# Altium footprint library SamacSys.PcbLib: 19 footprints (part 1 of 2)
Each footprint in its own frame and in the unit in brackets; x right, y up, seen from the top. Pads: shape width x height; smd on the part's side, far side on the other; paste and mask are expansions set on the pad; w line width, h text height; cw(c..) or ccw(c..) is an arc to the next point about the centre after c.
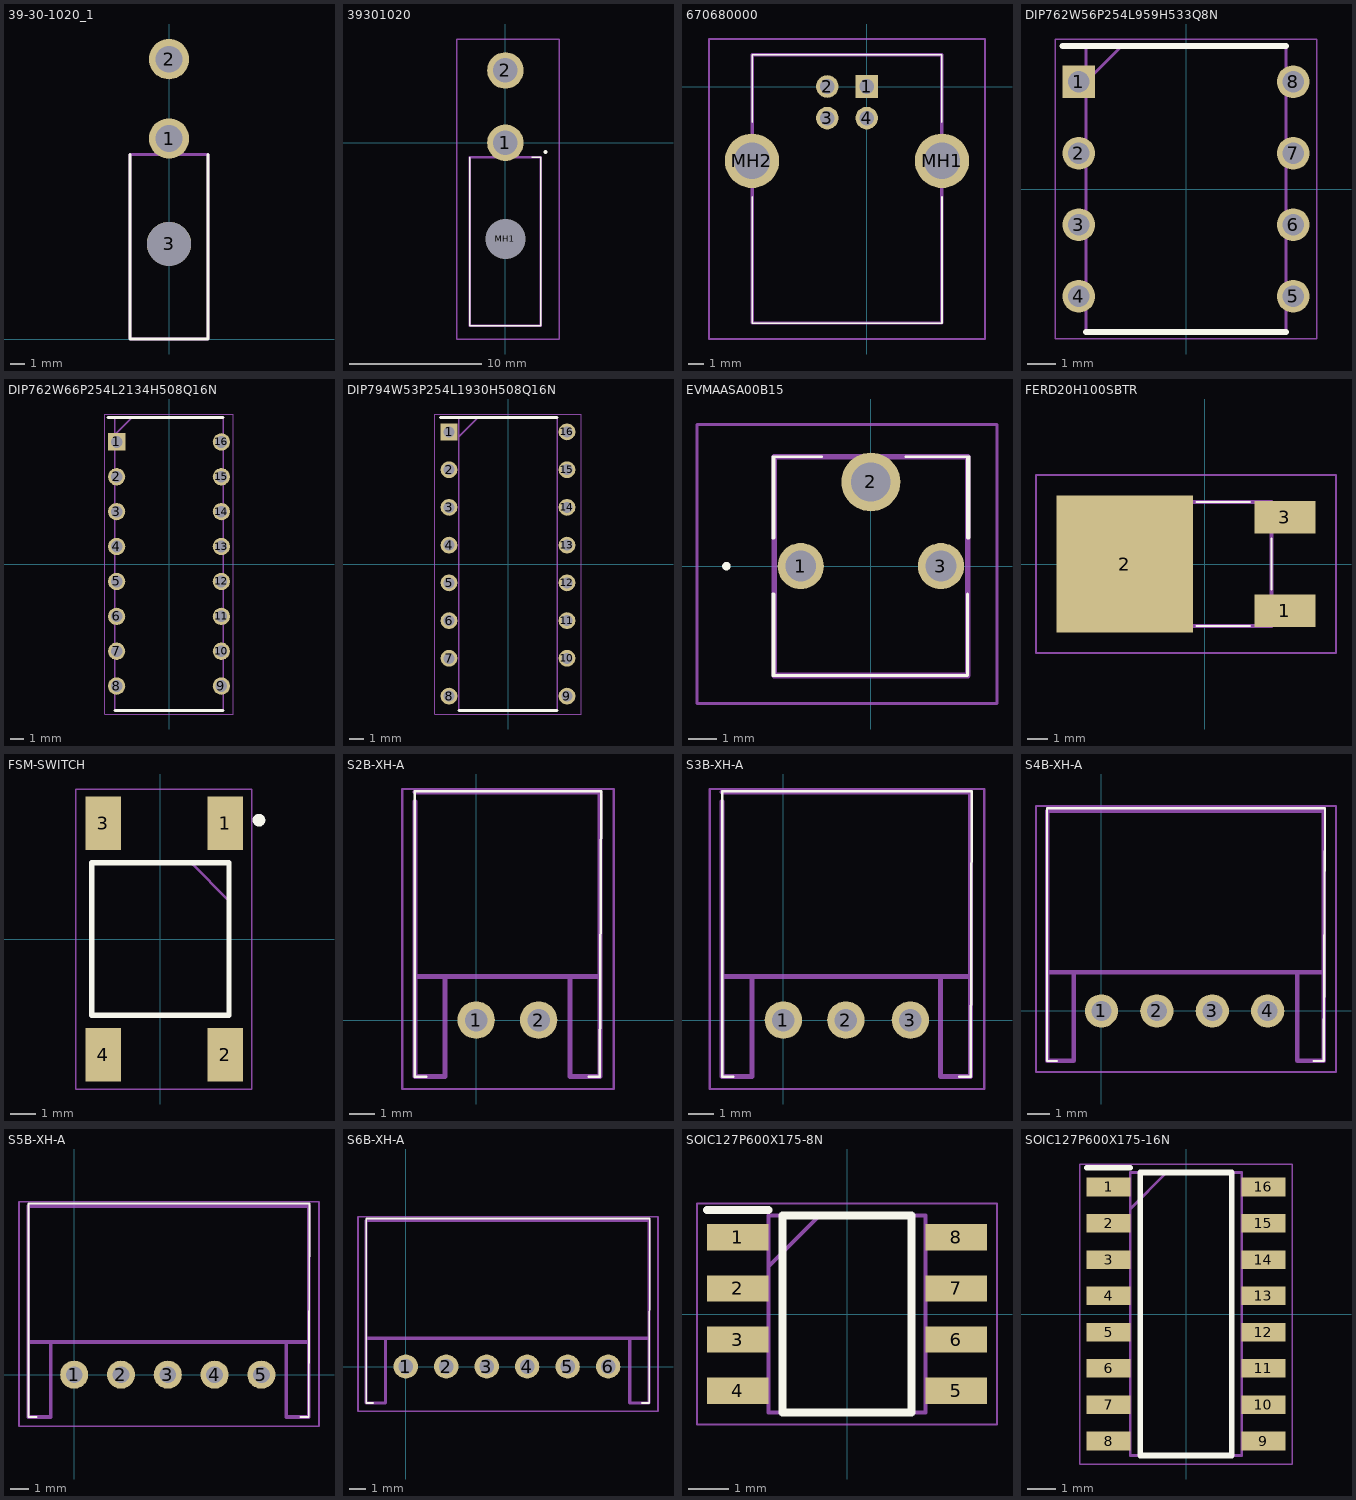
[diagram p0: the footprints below, top view; thin cyan lines are the x and y axes]

## 39-30-1020_1 [mm]
pads (3):
  round 2.8 hole 1.85: 1(0,13.9) 2(0,19.4)
  round 3.05 hole 3.05 unplated: 3(0,6.6)
Top Overlay:
  lines w0.2: -2.7,12.8 -2.7,0 2.7,0 2.7,12.8
Mechanical 13:
  lines w0.2: -2.7,0 2.7,0 2.7,12.8 -2.7,12.8 -2.7,0
3D body "39-30-1020.stp": height 11.4, standoff -3.6, extent -2.7,0.01 3.1,19.945

## 39301020 [mm]
pads (3):
  round 2.775 hole 1.85: 1(0,0) 2(0,5.5)
  round 1.525 hole 3.05 unplated: MH1(0,-7.3)
Top Overlay:
  lines w0.1: -2.7,-1.1 -2.7,-13.9 2.7,-13.9 2.7,-1.1 2,-1.1
  lines w0.2: 3,-0.7 cw(c3.05,-0.7) 3.1,-0.7 cw(c3.05,-0.7) 3,-0.7
Mechanical 13:
  lines w0.2: -2.7,-13.9 -2.7,-1.1 2.7,-1.1 2.7,-13.9 -2.7,-13.9
Mechanical 15:
  lines w0.1: -3.7,-14.9 -3.7,7.887 4.1,7.887 4.1,-14.9 -3.7,-14.9
3D body "39301020.stp": height 10.75, standoff -4.25, extent -2.7,-14 3.1,5.935

## 670680000 [mm]
pads (6):
  rect 1.431x1.431 hole 0.92: 1(0,0)
  round 1.431 hole 0.92: 2(-2.5,0) 3(-2.5,-2) 4(0,-2)
  round 3.45 hole 2.3: MH1(4.77,-4.71) MH2(-7.27,-4.71)
Top Overlay:
  lines w0.1: -7.25,-14.99 4.77,-14.99 ; -7.25,-14.99 -7.25,-15 4.77,-15 4.77,-14.99 ; -7.25,-14.99 -7.25,-7 -7.25,-14.99 ; -7.25,2 4.75,2 ; -7.25,2 4.75,2 ; -7.25,2 -7.25,-2.25 -7.25,2 ; 4.75,2 4.75,-2.25 4.75,2 ; 4.77,-14.99 4.77,-7 4.77,-14.99
Mechanical 13:
  lines w0.2: -7.25,-14.99 4.75,-14.99 4.75,2.01 -7.25,2.01 -7.25,-14.99
Mechanical 15:
  lines w0.1: -9.995,-16 7.495,-16 7.495,3.01 -9.995,3.01 -9.995,-16
3D body "67068-0000.stp": height 11.1, standoff -5, extent -8.32,-14.99 5.82,2.01

## DIP762W56P254L959H533Q8N [mm]
pads (8):
  rect 1.16x1.16 hole 0.76: 1(-3.81,3.81)
  round 1.16 hole 0.76: 2(-3.81,1.27) 3(-3.81,-1.27) 4(-3.81,-3.81) 5(3.81,-3.81) 6(3.81,-1.27) 7(3.81,1.27) 8(3.81,3.81)
Top Overlay:
  lines w0.2: -4.39,5.08 3.555,5.08 ; -3.555,-5.08 3.555,-5.08
Mechanical 13:
  lines w0.1: -3.555,3.81 -2.285,5.08 ; -3.555,-5.08 3.555,-5.08 3.555,5.08 -3.555,5.08 -3.555,-5.08
Mechanical 15:
  lines w0.05: -4.64,-5.33 4.64,-5.33 4.64,5.33 -4.64,5.33 -4.64,-5.33
3D body "NE555N.stp": height 5.33, standoff -3.5, extent -3.95,-4.795 3.95,4.795

## DIP762W66P254L2134H508Q16N [mm]
pads (16):
  rect 1.26x1.26 hole 0.86: 1(-3.81,8.89)
  round 1.26 hole 0.86: 2(-3.81,6.35) 3(-3.81,3.81) 4(-3.81,1.27) 5(-3.81,-1.27) 6(-3.81,-3.81) 7(-3.81,-6.35) 8(-3.81,-8.89) 9(3.81,-8.89) 10(3.81,-6.35) 11(3.81,-3.81) 12(3.81,-1.27) 13(3.81,1.27) 14(3.81,3.81) 15(3.81,6.35) 16(3.81,8.89)
Top Overlay:
  lines w0.2: -4.44,10.67 3.935,10.67 ; -3.935,-10.67 3.935,-10.67
Mechanical 13:
  lines w0.1: -3.935,9.4 -2.665,10.67 ; -3.935,-10.67 -3.935,10.67 3.935,10.67 3.935,-10.67 -3.935,-10.67
Mechanical 15:
  lines w0.05: -4.69,-10.92 -4.69,10.92 4.69,10.92 4.69,-10.92 -4.69,-10.92
3D body "CD4029BDMSR.stp": height 5.08, standoff -3.5, extent -3.975,-10.67 3.975,10.67

## DIP794W53P254L1930H508Q16N [mm]
pads (16):
  rect 1.13x1.13 hole 0.73: 1(-3.97,8.89)
  round 1.13 hole 0.73: 2(-3.97,6.35) 3(-3.97,3.81) 4(-3.97,1.27) 5(-3.97,-1.27) 6(-3.97,-3.81) 7(-3.97,-6.35) 8(-3.97,-8.89) 9(3.97,-8.89) 10(3.97,-6.35) 11(3.97,-3.81) 12(3.97,-1.27) 13(3.97,1.27) 14(3.97,3.81) 15(3.97,6.35) 16(3.97,8.89)
Top Overlay:
  lines w0.2: -4.535,9.845 3.3,9.845 ; -3.3,-9.845 3.3,-9.845
Mechanical 13:
  lines w0.1: -3.3,8.575 -2.03,9.845 ; -3.3,-9.845 -3.3,9.845 3.3,9.845 3.3,-9.845 -3.3,-9.845
Mechanical 15:
  lines w0.05: -4.945,-10.095 -4.945,10.095 4.945,10.095 4.945,-10.095 -4.945,-10.095
3D body "CD40193BE.stp": height 5.08, standoff -3.5, extent -4.102,-9.653 4.102,9.653

## EVMAASA00B15 [mm]
pads (3):
  round 1.65 hole 1.1: 1(-2.5,0) 3(2.5,0)
  round 2.1 hole 1.4: 2(0,3)
Top Overlay:
  lines w0.1: -3.5,-3.9 -3.45,-3.9 -3.45,-1 -3.5,-1 -3.5,-3.9 ; -3.5,-3.9 3.45,-3.9 ; -3.5,-3.9 3.45,-3.9 ; -3.5,3.9 -1.75,3.9 -3.5,3.9 ; -3.5,3.9 -3.45,3.9 -3.45,1 -3.5,1 -3.5,3.9 ; 3.45,-3.9 3.45,-1 3.45,-3.9 ; 3.45,3.9 1.25,3.9 3.45,3.9 ; 3.45,3.9 3.5,3.9 3.5,1 3.45,1 3.45,3.9
  lines w0.2: -5.2,0 ccw(c-5.15,0) -5.1,0 ; -5.2,0 cw(c-5.15,0) -5.1,0 ; -5.2,0 ccw(c-5.15,0) -5.1,0
Mechanical 13:
  lines w0.2: -3.45,-3.9 3.45,-3.9 3.45,3.9 -3.45,3.9 -3.45,-3.9
Mechanical 15:
  lines w0.1: -6.2,-4.9 4.5,-4.9 4.5,5.05 -6.2,5.05 -6.2,-4.9
3D body "EVM-AASA00B15.stp": height 7.7, standoff -5, extent -3.45,-3.9 3.45,3.9

## FERD20H100SBTR [mm]
pads (3):
  rect 3x1.6 smd: 1(3.925,-2.286) 3(3.925,2.286)
  rect 6.7x6.7 smd: 2(-3.925,0)
Top Overlay:
  lines w0.1: -0.4,-3.047 2.2,-3.047 ; -0.4,3.047 2.2,3.047 ; 3.27,-1.25 3.27,1.25
Mechanical 13:
  lines w0.2: -3.27,-3.047 -3.27,3.047 3.27,3.047 3.27,-3.047 -3.27,-3.047
Mechanical 15:
  lines w0.1: -8.275,-4.35 -8.275,4.35 6.425,4.35 6.425,-4.35 -8.275,-4.35
3D body "TO252 Gehäuse.step": height 2.3, standoff -0.05, extent -4.985,-3.198 3.715,3.302

## FSM-SWITCH [mm]
pads (4):
  rect 1.4x2.1 smd: 1(2.55,4.55) 2(2.55,-4.55) 3(-2.25,4.55) 4(-2.25,-4.55)
Top Overlay:
  circle w0.25: c3.875,4.675 r0.125
  lines w0.2: -2.7,-3 -2.7,3 2.7,3 2.7,-3 -2.7,-3
Mechanical 13:
  lines w0.1: 1.275,2.925 2.625,1.575 ; -2.7,-3 -2.7,3 2.7,3 2.7,-3 -2.7,-3
Mechanical 15:
  lines w0.05: -3.325,-5.9 -3.325,5.9 3.6,5.9 3.6,-5.9 -3.325,-5.9
3D body: height 5.1, standoff 3.6, extent -1.898,-2.032 2.102,1.967
3D body "4-1437565-1.stp": height 5, standoff -0.07, extent -2.873,-5 3.127,5

## S2B-XH-A [mm]
pads (2):
  round 1.5 hole 0.9: 1(0,0) 2(2.5,0)
Top Overlay:
  lines w0.1: -2,-2.257 -2.45,-2.257 -2.45,9.144 5.002,9.144 4.95,-2.257 4.5,-2.257
Mechanical 13:
  lines w0.2: -2.45,8.743 -2.45,1.743 ; -2.45,9.124 4.95,9.124 ; 4.95,9.017 4.95,1.743 ; -2.45,1.743 4.95,1.743 ; -2.45,1.743 -1.25,1.743 -1.25,-2.257 -2.45,-2.257 -2.45,1.743 ; 4.95,1.743 3.75,1.743 3.75,-2.257 4.95,-2.257 4.95,1.743
Mechanical 15:
  lines w0.1: -2.95,-2.757 5.5,-2.757 5.5,9.243 -2.95,9.243 -2.95,-2.757
3D body "S2B-XH-A(LF)(SN)--3DModel-STEP-56544.STEP": height 6.15, standoff -3.4, extent -2.413,-2.321 4.987,9.179

## S3B-XH-A [mm]
pads (3):
  round 1.5 hole 0.9: 1(0,0) 2(2.5,0) 3(5.08,0)
Top Overlay:
  lines w0.1: -2,-2.257 -2.45,-2.257 -2.45,9.144 7.542,9.144 7.49,-2.257 7.04,-2.257
Mechanical 13:
  lines w0.2: -2.45,8.743 -2.45,1.743 ; -2.45,9.124 7.442,9.119 ; 7.49,9.017 7.49,1.743 ; -2.45,1.743 -2.45,-2.257 -1.25,-2.257 -1.25,1.743 -2.45,1.743 ; -2.45,1.743 6.29,1.743 ; 6.29,1.743 6.29,-2.257 7.49,-2.257 7.49,1.743 ; 6.29,1.743 7.49,1.743
Mechanical 15:
  lines w0.1: -2.95,-2.757 -2.95,9.243 8.04,9.243 8.04,-2.757 -2.95,-2.757
3D body "S3B-XH-A.STEP": height 6.15, standoff -3.4, extent -2.436,-2.27 7.465,9.23

## S4B-XH-A [mm]
pads (4):
  round 1.5 hole 0.9: 1(0,0) 2(2.5,0) 3(5,0) 4(7.5,0)
Top Overlay:
  lines w0.1: -2,-2.257 -2.45,-2.257 -2.45,9.144 10.082,9.144 10.03,-2.257 9.58,-2.257
Mechanical 13:
  lines w0.2: -2.45,1.743 -2.45,-2.257 -1.25,-2.257 -1.25,1.743 -2.45,1.743 ; -2.45,1.743 -2.45,9.017 10.03,9.017 10.03,1.743 ; -2.45,1.743 8.83,1.743 ; 8.83,1.743 8.83,-2.257 10.03,-2.257 10.03,1.743 ; 8.83,1.743 10.03,1.743
Mechanical 15:
  lines w0.1: -2.95,-2.757 -2.95,9.243 10.58,9.243 10.58,-2.757 -2.95,-2.757
3D body "S4B-XH-A.STEP": height 6.15, standoff -3.4, extent -2.441,-2.321 9.959,9.179

## S5B-XH-A [mm]
pads (5):
  round 1.5 hole 0.9: 1(0,0) 2(2.5,0) 3(5,0) 4(7.5,0) 5(10,0)
Top Overlay:
  lines w0.1: -2,-2.257 -2.45,-2.257 -2.45,9.144 12.582,9.144 12.53,-2.257 12.08,-2.257
Mechanical 13:
  lines w0.2: -2.45,1.743 -2.45,-2.257 -1.25,-2.257 -1.25,1.743 -2.45,1.743 ; -2.45,1.743 -2.45,9.017 12.53,9.017 12.53,1.743 ; -2.45,1.743 11.33,1.743 ; 11.33,1.743 11.33,-2.257 12.53,-2.257 12.53,1.743 ; 11.33,1.743 12.53,1.743
Mechanical 15:
  lines w0.1: -2.95,-2.757 -2.95,9.243 13.08,9.243 13.08,-2.757 -2.95,-2.757
3D body "S5B-XH-A.STEP": height 6.15, standoff -3.4, extent -2.446,-2.296 12.454,9.204

## S6B-XH-A [mm]
pads (6):
  round 1.5 hole 0.9: 1(0,0) 2(2.5,0) 3(5,0) 4(7.5,0) 5(10,0) 6(12.5,0)
Top Overlay:
  lines w0.1: -2,-2.257 -2.45,-2.257 -2.45,9.144 15.082,9.144 15.03,-2.257 14.58,-2.257
Mechanical 13:
  lines w0.2: -2.45,1.743 13.83,1.743 ; -2.45,1.743 -2.45,9.017 15.03,9.017 15.03,1.743 ; -2.45,1.743 -1.25,1.743 -1.25,-2.257 -2.45,-2.257 -2.45,1.743 ; 13.83,1.743 15.03,1.743 ; 13.83,1.743 13.83,-2.257 15.03,-2.257 15.03,1.743
Mechanical 15:
  lines w0.1: -2.95,-2.757 15.58,-2.757 15.58,9.243 -2.95,9.243 -2.95,-2.757
3D body "S6B-XH-A.STEP": height 6.15, standoff -3.4, extent -2.452,-2.296 14.948,9.204

## SOIC127P600X175-8N [mm]
pads (8):
  rect 1.525x0.65 smd: 1(-2.712,1.905) 2(-2.712,0.635) 3(-2.712,-0.635) 4(-2.712,-1.905) 5(2.712,-1.905) 6(2.712,-0.635) 7(2.712,0.635) 8(2.712,1.905)
Top Overlay:
  lines w0.2: -3.475,2.58 -1.95,2.58 ; -1.6,-2.45 -1.6,2.45 1.6,2.45 1.6,-2.45 -1.6,-2.45
Mechanical 13:
  lines w0.1: -1.95,1.18 -0.68,2.45 ; -1.95,-2.45 -1.95,2.45 1.95,2.45 1.95,-2.45 -1.95,-2.45
Mechanical 15:
  lines w0.05: -3.725,-2.75 -3.725,2.75 3.725,2.75 3.725,-2.75 -3.725,-2.75
3D body "NE555DG4.stp": height 1.75, standoff 0, extent -3,-2.45 3,2.45

## SOIC127P600X175-16N [mm]
pads (16):
  rect 1.525x0.65 smd: 1(-2.712,4.445) 2(-2.712,3.175) 3(-2.712,1.905) 4(-2.712,0.635) 5(-2.712,-0.635) 6(-2.712,-1.905) 7(-2.712,-3.175) 8(-2.712,-4.445) 9(2.712,-4.445) 10(2.712,-3.175) 11(2.712,-1.905) 12(2.712,-0.635) 13(2.712,0.635) 14(2.712,1.905) 15(2.712,3.175) 16(2.712,4.445)
Top Overlay:
  lines w0.2: -3.475,5.12 -1.95,5.12 ; -1.6,-4.95 -1.6,4.95 1.6,4.95 1.6,-4.95 -1.6,-4.95
Mechanical 13:
  lines w0.1: -1.95,3.68 -0.68,4.95 ; -1.95,-4.95 -1.95,4.95 1.95,4.95 1.95,-4.95 -1.95,-4.95
Mechanical 15:
  lines w0.05: -3.725,-5.25 -3.725,5.25 3.725,5.25 3.725,-5.25 -3.725,-5.25
3D body "CD4029BM96.stp": height 1.75, standoff 0, extent -3,-4.95 3,4.95